# Altium footprint library PCB1.PcbLib: 33 footprints (part 1 of 3)
Each footprint in its own frame and in the unit in brackets; x right, y up, seen from the top. Pads: shape width x height; smd on the part's side, far side on the other; paste and mask are expansions set on the pad; w line width, h text height; cw(c..) or ccw(c..) is an arc to the next point about the centre after c.
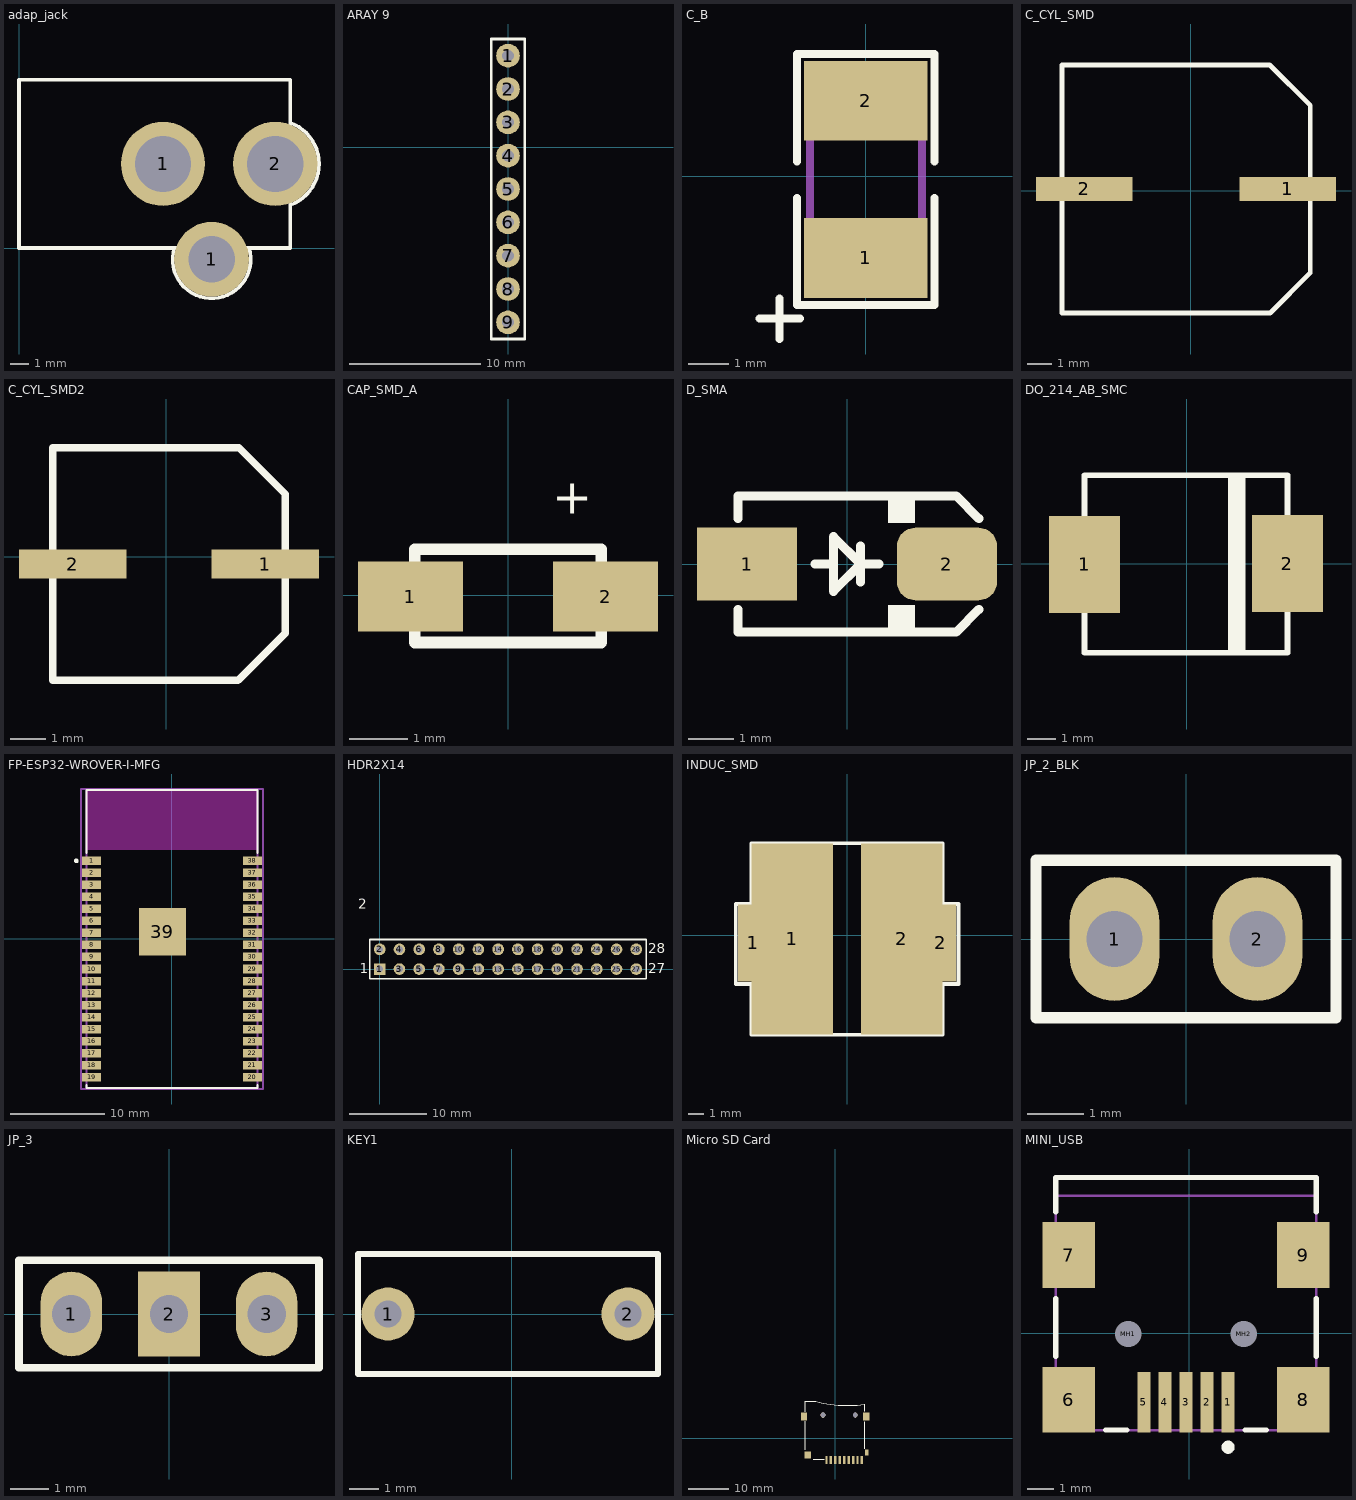
[diagram p0: the footprints below, top view; thin cyan lines are the x and y axes]

## adap_jack [mm]
pads (3):
  round 4.5 hole 3: 1(7.7,4.5) 2(13.7,4.5)
  round 4 hole 2.5: 1(10.3,-0.6)
Top Overlay:
  lines w0.2: 8.3,0 ccw(c10.3,-0.6) 12.3,0 ; 14.5,2.3 ccw(c13.7,4.5) 14.5,6.7 ; 0,0 0,9 14.5,9 14.5,0 0,0
3D body: height 4, standoff 0, extent 13.9,3.3 14.7,5.6
3D body: height 4, standoff 0, extent 9.1,-0.5 11.4,0.3
3D body: height 10, standoff 0, extent 0,0 14.5,9
3D body: height 7.98, standoff 2, extent -0.1,1.5 1.9,7.488

## ARAY 9 [mm]
pads (9):
  round 1.8 hole 0.9: 1(0,6.985) 2(0,4.445) 3(0,1.905) 4(0,-0.635) 5(0,-3.175) 6(0,-5.715) 7(0,-8.255) 8(0,-10.795) 9(0,-13.335)
Top Overlay:
  lines w0.2: -1.27,-14.605 -1.27,8.255 1.27,8.255 1.27,-14.605 -1.27,-14.605

## C_B [mm]
pads (2):
  rect 3.1x2 smd: 1(-0.002,-2.041) 2(-0.002,1.896)
Top Overlay:
  lines w0.2: -2.669,-3.565 -1.653,-3.565 ; -2.161,-4.073 -2.161,-3.057 ; -1.727,-0.533 -1.727,-3.226 1.727,-3.226 1.727,-0.533 ; -1.727,0.381 -1.727,3.073 1.727,3.073 1.727,0.381
Mechanical 3:
  lines w0.2: -1.397,1.722 -1.397,-1.778 1.403,-1.778 ; -1.397,1.778 1.403,1.778 1.403,-1.722
3D body: height 2.2, standoff 0, extent -1.397,-1.575 1.403,1.575
3D body: height 0.3, standoff 0, extent -1.397,-1.778 1.403,-1.575
3D body: height 0.3, standoff 0, extent -1.397,1.575 1.403,1.778
3D body: height 2.23, standoff 0, extent -1.397,-0.991 1.403,-0.787

## C_CYL_SMD [mm]
pads (2):
  rect 4x1 smd: 1(4.039,0.076) 2(-4.42,0.076)
Top Overlay:
  lines w0.2: -5.334,-5.08 3.302,-5.08 4.966,-3.416 4.966,3.543 3.289,5.22 -5.334,5.22 -5.334,-5.08
3D body: height 2, standoff 0, extent -5.334,-5.08 4.966,5.22
3D body: height 10, standoff 0, extent -5.156,-4.928 4.804,5.053

## C_CYL_SMD2 [mm]
pads (2):
  rect 3x0.8 smd: 1(2.769,-0.203) 2(-2.616,-0.203)
Top Overlay:
  lines w0.2: -3.175,-3.452 -3.175,3.048 2.032,3.048 3.325,1.755 3.325,-2.136 2.009,-3.452 -3.175,-3.452
3D body: height 1.5, standoff 0, extent -3.175,-3.452 3.325,3.048
3D body: height 5, standoff 0, extent -3.023,-3.302 3.153,2.886

## CAP_SMD_A [mm]
pads (2):
  rect 1.8x1.2 smd: 1(-1.676,-0.025) 2(1.676,-0.025)
Top Overlay:
  lines w0.2: -1.6,-0.813 1.6,-0.813 1.6,0.787 -1.6,0.787 -1.6,-0.813
  text "+" at 0.762,1.397 h0.6
3D body "User Library-A Case SMT Capacitor.STEP": height 1.77, standoff 0.17, extent -1.65,-0.762 1.524,0.838

## D_SMA [mm] "SMA Molded Diode, 2-Leads, Body 4.3x2.7mm, SOD-128"
height 2.4
pads (2):
  rect 2.2x1.6 smd: 1(-2.2,0)
  rrect50% 2.2x1.6 smd: 2(2.2,0)
Top Overlay:
  rectangle: 0.9,-1.5 1.5,-0.9
  rectangle: 0.9,0.9 1.5,1.5
  lines w0.2: -2.4,-1 -2.4,-1.5 2.4,-1.5 2.9,-1 ; -2.4,1 -2.4,1.5 2.4,1.5 2.9,1 ; -0.7,0 -0.3,0 ; 0.3,-0.4 0.3,0.4 ; 0.7,0 0.3,0 ; 0.3,0 -0.3,0.6 -0.3,-0.6 0.3,0
3D body "User Library-DIOM5528X26.step": height 2.6, standoff 0.03, extent -2.75,-1.4 2.75,1.4

## DO_214_AB_SMC [mm]
pads (2):
  rect 2.5x3.4 smd: 1(-3.581,-0.025) 2(3.531,0)
Top Overlay:
  rectangle: 1.448,-3.121 2.057,3.099
  lines w0.2: -3.581,-3.121 3.529,-3.121 3.529,3.099 -3.581,3.099 -3.581,-3.121
3D body "SMCJ48A.STEP": height 2.71, standoff 0.09, extent -4.096,-2.826 3.842,3.08

## FP-ESP32-WROVER-I-MFG [mm]
pads (39):
  rect 2x0.9 smd paste+0 mask+0: 1(-8.5,8.26) 2(-8.5,6.99) 3(-8.5,5.72) 4(-8.5,4.45) 5(-8.5,3.18) 6(-8.5,1.91) 7(-8.5,0.64) 8(-8.5,-0.63) 9(-8.5,-1.9) 10(-8.5,-3.17) 11(-8.5,-4.44) 12(-8.5,-5.71) 13(-8.5,-6.98) 14(-8.5,-8.25) 15(-8.5,-9.52) 16(-8.5,-10.79) 17(-8.5,-12.06) 18(-8.5,-13.33) 19(-8.5,-14.6) 20(8.5,-14.6) 21(8.5,-13.33) 22(8.5,-12.06) 23(8.5,-10.79) 24(8.5,-9.52) 25(8.5,-8.25) 26(8.5,-6.98) 27(8.5,-5.71) 28(8.5,-4.44) 29(8.5,-3.17) 30(8.5,-1.9) 31(8.5,-0.63) 32(8.5,0.64) 33(8.5,1.91) 34(8.5,3.18) 35(8.5,4.45) 36(8.5,5.72) 37(8.5,6.99) 38(8.5,8.26)
  rect 5x5 smd paste+0 mask+0: 39(-1,0.76)
Top Overlay:
  circle w0.25: c-10.1,8.26 r0.125
  lines w0.2: -9.05,-15.425 -9.05,-15.75 9.05,-15.75 9.05,-15.425 ; -9.05,9.085 -9.05,15.75 9.05,15.75 9.05,9.085
Keep-Out Layer:
  rectangle: -9,9.4 9,15.7
  rectangle: -9,9.4 9,15.7
Top 3D Body:
  lines w0.2: -9.05,-15.75 9.05,-15.75 9.05,15.75 -9.05,15.75 -9.05,-15.75
Top Courtyard:
  lines w0.2: -9.6,-15.85 9.6,-15.85 9.6,15.85 -9.6,15.85 -9.6,-15.85
Top Assembly:
  lines w0.2: -9.6,-15.85 9.6,-15.85 9.6,15.85 -9.6,15.85 -9.6,-15.85
  text ".Designator" at 0,0.188 h1
Top Component Center:
  lines w0.1: -0.5,0 0.5,0 ; 0,-0.5 0,0.5
3D body "UNK_Espressif_ESP32-WROVER-I_eec.STEP": height 0.25, standoff 0, extent -9.6,-15.85 9.6,15.85

## HDR2X14 [mm] "Connector; Header; 14x2 Position"
pads (28):
  rect 1.5x1.5 hole 0.9: 1(0,0)
  round 1.5 hole 0.9: 2(0,2.54) 3(2.54,0) 4(2.54,2.54) 5(5.08,0) 6(5.08,2.54) 7(7.62,0) 8(7.62,2.54) 9(10.16,0) 10(10.16,2.54) 11(12.7,0) 12(12.7,2.54) 13(15.24,0) 14(15.24,2.54) 15(17.78,0) 16(17.78,2.54) 17(20.32,0) 18(20.32,2.54) 19(22.86,0) 20(22.86,2.54) 21(25.4,0) 22(25.4,2.54) 23(27.94,0) 24(27.94,2.54) 25(30.48,0) 26(30.48,2.54) 27(33.02,0) 28(33.02,2.54)
Top Overlay:
  lines w0.2: -1.27,-1.27 34.29,-1.27 34.29,3.81 -1.27,3.81 -1.27,-1.27
  text "28" at 34.544,2.032 h1.27
  text "27" at 34.544,-0.508 h1.27
  text "1" at -2.54,-0.508 h1.27
  text "2" at -2.794,7.747 h1.27
3D body "ESW-114-59-S-D.stp": height 15.51, standoff -7.73, extent -1.524,-1.143 34.544,3.937

## INDUC_SMD [mm]
pads (4):
  rect 2x5 smd: 1(-6.096,-0.508) 2(6.096,-0.508)
  rect 5.3x12.4 smd: 1(-3.556,-0.254) 2(3.556,-0.254)
Top Overlay:
  lines w0.254: -6.223,2.036 -6.223,5.969 6.227,5.969 6.227,2.036 6.223,2.032 7.239,2.032 7.239,-3.175 6.227,-3.175 6.227,-6.481 -6.223,-6.481 -6.223,-3.175 -7.235,-3.175 -7.235,2.032 -6.219,2.032
3D body "Coilcraft-MSS1038.STEP": height 4.1, standoff 0.1, extent -5.277,-5.481 5.023,4.719

## JP_2_BLK [mm] "Jumper Header 2.54mm Pitch, Vertical, BLACK"
height 7.62
pads (2):
  oval 1.6x2.2 hole 1: 1(-1.27,0) 2(1.27,0)
Top Overlay:
  lines w0.2: -2.67,-1.4 -2.67,1.4 2.67,1.4 2.67,-1.4 -2.67,-1.4
3D body "header02.STEP": height 8.38, standoff -2.54, extent -2.54,-1.27 2.54,1.27
3D body "jumper_akspt_g-red.STEP": height 8.57, standoff 2.6, extent -2.49,-1.22 2.49,1.22

## JP_3 [mm] "Jumper Header 2.54mm Pitch, 3PIN, Vertical"
pads (3):
  oval 1.6x2.2 hole 1: 1(-2.54,0) 3(2.54,0)
  rect 1.6x2.2 hole 1: 2(0,0)
Top Overlay:
  lines w0.2: -3.9,-1.4 3.9,-1.4 3.9,1.4 -3.9,1.4 -3.9,-1.4
3D body "jumper_akspt_g-red.STEP": height 8.57, standoff 2.6, extent -3.76,-1.22 1.22,1.22
3D body "Header3.STEP": height 8.38, standoff -2.54, extent -3.82,-1.27 3.8,1.27

## KEY1 [mm]
pads (2):
  round 1.8 hole 0.9: 1(-4.191,0) 2(3.937,0)
Top Overlay:
  lines w0.2: -5.207,-2.032 -5.207,2.032 4.953,2.032 4.953,-2.032 -5.207,-2.032
3D body: height 6, standoff 0, extent -5.207,-2.032 4.953,2.032
3D body: height 7, standoff 0, extent -2.413,-1.143 2.159,1.016
3D body: height 7.1, standoff 0, extent -2.413,-1.222 2.159,-1.095
3D body: height 7.1, standoff 0, extent -2.413,1.016 2.159,1.143

## Micro SD Card [mm]
pads (13):
  rect 0.6x2 smd: 1(-2.23,-5.414) 2(-1.129,-5.414) 3(-0.03,-5.414) 4(1.071,-5.414) 5(2.17,-5.414) 6(3.271,-5.414) 7(4.37,-5.414) 8(5.47,-5.414) 9(6.571,-5.414)
  rect 0.8x1.5 smd: 10(7.78,-3.603)
  rect 1.7x1.7 smd: 11(-6.879,-4.195)
  rect 1.5x2 smd: 12(7.653,5.414) 13(-7.78,5.405)
via 4.907,5.741 diameter 1.2 hole 1.2
via -3.094,5.741 diameter 1.2 hole 1.2
Top Overlay:
  lines w0.254: -7.533,-2.913 -7.533,4.199 ; -7.533,6.612 -7.533,9.17 -4.935,9.17 ccw(c2.868,38.149) 7.271,8.462 7.271,6.684 ; -5.555,-5.254 -2.761,-5.254 ; 7.272,-2.587 7.272,4.144 ; 7.271,6.684 7.272,6.684
Keep-Out Layer:
  lines w0.254: -3.579,5.764 cw(c-3.079,5.764) -2.579,5.764 cw(c-3.079,5.764) -3.579,5.764 ; 4.421,5.764 cw(c4.921,5.764) 5.42,5.764 cw(c4.921,5.764) 4.421,5.764
Drill Drawing:
  circle w0.254: c-3.079,5.764 r0.5
  circle w0.254: c4.921,5.764 r0.5
3D body "User Library-MEM2055-00-190-01-A_revG.STEP": height 1.85, standoff -0.6, extent -8.045,-5.44 7.955,9.81

## MINI_USB [mm]
pads (11):
  rect 0.5x2.3 smd mask+0.04: 1(1.468,-2.626) 2(0.668,-2.626) 3(-0.132,-2.626) 4(-0.932,-2.626) 5(-1.732,-2.626)
  rect 2x2.5 smd: 6(-4.582,-2.526) 7(-4.582,2.974) 8(4.318,-2.526) 9(4.318,2.974)
  round 0.6 hole 1 unplated: MH1(-2.332,-0.026) MH2(2.068,-0.026)
Top Overlay:
  circle w0.25: c1.468,-4.326 r0.125
  lines w0.2: -5.082,-0.876 -5.082,1.324 ; -5.082,4.624 -5.082,5.924 4.818,5.924 4.818,4.624 ; -3.182,-3.676 -2.382,-3.676 ; 2.118,-3.676 2.918,-3.676 ; 4.818,-0.876 4.818,1.324
Mechanical 1:
  lines w0.1: -5.082,5.224 4.818,5.224
  text "PCB Edge" at 3.904,5.656 h0.25
Mechanical 13:
  lines w0.1: -5.082,-3.676 4.818,-3.676 4.818,5.924 -5.082,5.924 -5.082,-3.676
3D body "usb_a-usb_b-m5-smd-c.STEP": height 3.93, standoff -1, extent -5.082,-3.376 4.818,5.874